# EAGLE library part BLE112 (library work)
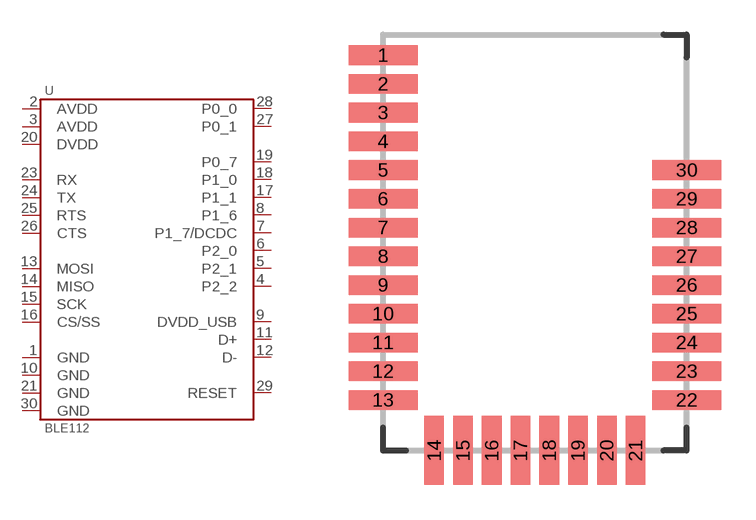
[diagram p88: symbol with the pads of BLE112; footprint BLE112]

Designator prefix U

## BLE112  [BLE112]
1  GND
2  AVDD
3  AVDD
4  P2_2
5  P2_1
6  P2_0
7  P1_7/DCDC
8  P1_6
9  DVDD_USB
10  GND
11  D+
12  D-
13  MOSI
14  MISO
15  SCK
16  CS/SS
17  P1_1
18  P1_0
19  P0_7
20  DVDD
21  GND
23  RX
24  TX
25  RTS
26  CTS
27  P0_1
28  P0_0
29  RESET
30  GND

## Footprint BLE112 (pad centres in mm)
smd 3 x 0.85: 1 -6.6,17.2; 2 -6.6,15.95; 3 -6.6,14.7; 4 -6.6,13.45; 5 -6.6,12.2; 6 -6.6,10.95; 7 -6.6,9.7; 8 -6.6,8.45; 9 -6.6,7.2; 10 -6.6,5.95; 11 -6.6,4.7; 12 -6.6,3.45; 13 -6.6,2.2; 22 6.6,2.2; 23 6.6,3.45; 24 6.6,4.7; 25 6.6,5.95; 26 6.6,7.2; 27 6.6,8.45; 28 6.6,9.7; 29 6.6,10.95; 30 6.6,12.2
smd 0.85 x 3: 14 -4.375,0; 15 -3.125,0; 16 -1.875,0; 17 -0.625,0; 18 0.625,0; 19 1.875,0; 20 3.125,0; 21 4.375,0